# Altium footprint library Inductor.PcbLib: 9 footprints
Each footprint in its own frame and in the unit in brackets; x right, y up, seen from the top. Pads: shape width x height; smd on the part's side, far side on the other; paste and mask are expansions set on the pad; w line width, h text height; cw(c..) or ccw(c..) is an arc to the next point about the centre after c.
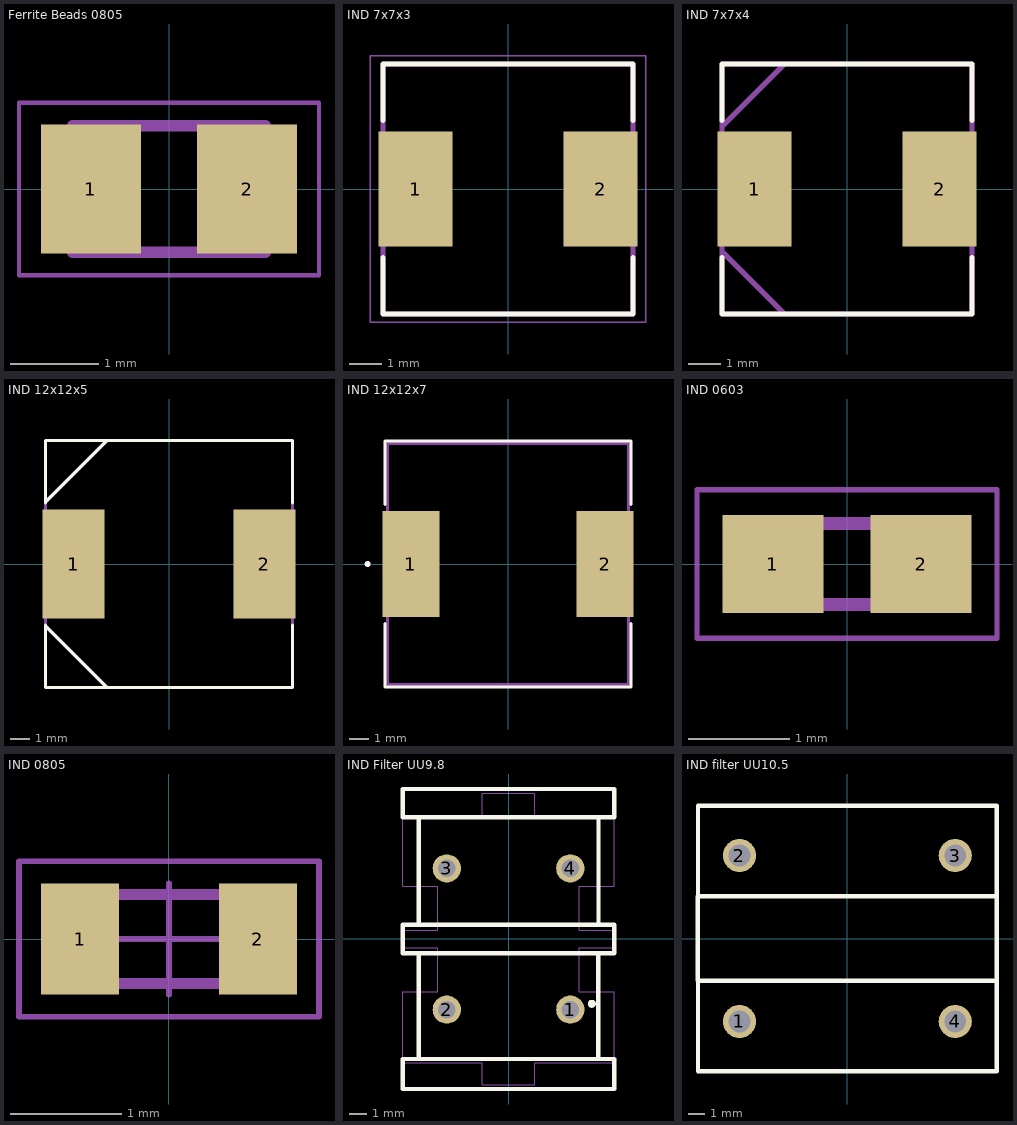
[diagram p0: the footprints below, top view; thin cyan lines are the x and y axes]

## Ferrite Beads 0805 [mm]
pads (2):
  rect 1.14x1.47 smd: 1(-0.89,0) 2(0.89,0)
Mechanical 13:
  lines w0.127: -1.1,-0.72 1.1,-0.72 1.1,0.72 -1.1,0.72 -1.1,-0.72
Mechanical 15:
  lines w0.05: -1.708,-0.983 1.708,-0.983 1.708,0.983 -1.708,0.983 -1.708,-0.983
3D body "BLM21AG102SH1D.STEP": height 1.05, standoff 0, extent -1,-0.625 1,0.625

## IND 7x7x3 [mil]
pads (2):
  rect 89x138 smd: 1(-111,0) 2(111,0)
Top Overlay:
  lines w6: -150,-82 -150,-150 150,-150 150,-82 ; -150,82 -150,150 150,150 150,82
Mechanical 13:
  lines w6: -150,-150 -150,150 150,150 150,-150 -150,-150
Mechanical 15:
  lines w1.97: -165.34,-159.84 -165.34,159.84 165.34,159.84 165.34,-159.84 -165.34,-159.84
3D body "step_temp.STEP": height 139.76, standoff 0, extent -149.61,-149.61 149.61,149.61

## IND 7x7x4 [mil]
pads (2):
  rect 89x138 smd: 1(-111,0) 2(111,0)
Top Overlay:
  lines w6: -150,-82 -150,-150 150,-150 150,-82 ; -150,82 -150,150 150,150 150,82
Mechanical 13:
  lines w6: -150,-75 -75,-150 ; -150,75 -75,150 ; -150,-150 -150,150 150,150 150,-150 -150,-150
3D body "DR74-100-R--3DModel-STEP-510211.STEP": height 171.26, standoff 0, extent -149.61,-149.61 149.61,149.61

## IND 12x12x5 [mil]
pads (2):
  rect 124x217 smd: 1(-190,0) 2(190,0)
Top Overlay:
  lines w6: -246,-121 -246,-123 ; -246,121 -246,246 246,246 246,121 ; -246,123 -123,246 ; -123,-246 -246,-123 ; 246,-121 246,-246 -246,-246 -246,-123
Mechanical 13:
  lines w6: -246,-123 -123,-246 ; -246,123 -123,246 ; -246,-246 246,-246 246,246 -246,246 -246,-246
3D body "DR125-180-R.STEP": height 236.22, standoff 0, extent -246.05,-246.06 246.07,246.07

## IND 12x12x7 [mil]
pads (2):
  rect 114x213 smd: 1(-195,0) 2(195,0)
Top Overlay:
  lines w6: -247,-120 -247,-247 247,-247 247,-120 ; -247,120 -247,247 247,247 247,120 ; -285,0 cw(c-282,0) -279,0 cw(c-282,0) -285,0
Mechanical 13:
  lines w0: -242,0 cw(c-239,0) -236,0 cw(c-239,0) -242,0
  lines w6: -242,-242 -242,0 -242,242 242,242 242,-242 -242,-242
3D body "step_temp.STEP": height 314.96, standoff 0, extent -236.22,-236.22 236.22,236.22

## IND 0603 [mm]
pads (2):
  rect 1x0.97 smd: 1(-0.735,0) 2(0.735,0)
Mechanical 13:
  lines w0.127: -0.8,-0.4 0.8,-0.4 0.8,0.4 -0.8,0.4 -0.8,-0.4
Mechanical 15:
  lines w0.05: -1.485,-0.735 -1.485,0.735 1.485,0.735 1.485,-0.735 -1.485,-0.735
3D body "step_temp.STEP": height 0.95, standoff 0, extent -0.8,-0.4 0.8,0.4

## IND 0805 [mm]
pads (2):
  rect 0.7x1 smd: 1(-0.8,0) 2(0.8,0)
Top 3D Body:
  lines w0.1: -0.8,-0.4 0.8,-0.4 0.8,0.4 -0.8,0.4 -0.8,-0.4
Top Designator:
  lines w0.05: -0.5,0 0.5,0 ; 0,-0.5 0,0.5 ; -1.35,-0.7 -1.35,0.7 1.35,0.7 1.35,-0.7 -1.35,-0.7
Top Component Outline:
  lines w0.1: -0.8,-0.4 -0.8,0.4 0.8,0.4 0.8,-0.4 -0.8,-0.4
3D body "74479762xxx_0603.stp": height 0.5, standoff 0, extent -0.8,-0.4 0.8,0.4

## IND Filter UU9.8 [mm]
pads (4):
  round 1.6 hole 1: 1(3.5,-4) 2(-3.5,-4) 3(-3.5,4) 4(3.5,4)
Top Overlay:
  circle w0.254: c4.72,-3.67 r0.1
  lines w0.254: -5.1,-6.8 -5.1,-0.8 ; -5.1,0.9 -5.1,6.9 ; 5.098,-6.798 5.098,-0.798 ; 5.098,0.901 5.098,6.901 ; 6,8.4 6,6.9 -6,6.9 -6,8.5 6,8.5 ; -6,-8.5 -6,-7.2 -6,-6.8 6,-6.8 6,-8.5 -6,-8.5 ; -6,-0.8 -6,0.8 6,0.8 6,-0.8 -6,-0.8
Mechanical 15:
  region: 3.8,-4.001 3.799,-3.942 3.752,-3.833 3.668,-3.751 3.559,-3.706 3.441,-3.706 3.332,-3.751 3.248,-3.833 3.201,-3.942 3.2,-4.001 3.201,-4.059 3.248,-4.168 3.332,-4.25 3.441,-4.295 3.559,-4.295 3.668,-4.25 3.752,-4.168 3.799,-4.059 3.8,-4
  region: 3.8,4 3.799,4.059 3.752,4.168 3.668,4.25 3.559,4.295 3.441,4.295 3.332,4.25 3.248,4.168 3.201,4.059 3.2,4 3.201,3.942 3.248,3.833 3.332,3.751 3.441,3.706 3.559,3.706 3.668,3.751 3.752,3.833 3.799,3.942 3.8,4
  region: -3.2,4 -3.201,4.059 -3.248,4.168 -3.332,4.25 -3.441,4.295 -3.559,4.295 -3.668,4.25 -3.752,4.168 -3.799,4.059 -3.8,4 -3.799,3.942 -3.752,3.833 -3.668,3.751 -3.559,3.706 -3.441,3.706 -3.332,3.751 -3.248,3.833 -3.201,3.942 -3.2,4
  region: -3.2,-4.001 -3.201,-3.942 -3.248,-3.833 -3.332,-3.751 -3.441,-3.706 -3.559,-3.706 -3.668,-3.751 -3.752,-3.833 -3.799,-3.942 -3.8,-4.001 -3.799,-4.059 -3.752,-4.168 -3.668,-4.25 -3.559,-4.295 -3.441,-4.295 -3.332,-4.25 -3.248,-4.168 -3.201,-4.059 -3.2,-4
  region: -5.94,-8.26 -5.94,-8.235 -5.975,-8.2 -6.025,-8.2 -6.06,-8.235 -6.06,-8.26 -6.06,-8.285 -6.025,-8.32 -5.975,-8.32 -5.94,-8.285 -5.94,-8.26
  lines w0.051: -6,-7 -6,-3 -4,-3 -4,-0.5 -6,-0.5 -6,0.5 -4,0.5 -4,3 -6,3 -6,7 -1.5,7 -1.5,8.25 1.5,8.25 1.5,7 6,7 6,3 4,3 4,2.85 4,2.84 4,0.5 6,0.5 6,-0.5 4,-0.5 4,-0.66 4,-3 6,-3 6,-7 1.5,-7 1.5,-8.25 -1.49,-8.25 -1.5,-8.26 -1.5,-8.25 -1.5,-7 -6,-7
3D body "User Library-UF9_8.STEP": height 15.3, standoff -3, extent -5.3,-8.076 5.3,8.081

## IND filter UU10.5 [mm]
pads (4):
  round 2 hole 1.3: 1(-6.5,-5) 2(-6.5,5) 3(6.5,5) 4(6.5,-5)
Top Overlay:
  lines w0.254: -9.017,-2.54 9.017,-2.54 9.017,2.54 -9.017,2.54 -9.017,-2.54 ; -9,-8 9,-8 9,8 -9,8 -9,-8
Mechanical 15:
  region: -8.94,-8 -8.94,-7.975 -8.975,-7.94 -9.025,-7.94 -9.06,-7.975 -9.06,-8 -9.06,-8.025 -9.025,-8.06 -8.975,-8.06 -8.94,-8.025 -8.94,-8
  region: 6.85,-5 6.85,-4.93 6.797,-4.802 6.698,-4.703 6.57,-4.65 6.43,-4.65 6.302,-4.703 6.203,-4.802 6.15,-4.93 6.15,-5 6.15,-5.07 6.203,-5.198 6.302,-5.297 6.43,-5.35 6.57,-5.35 6.698,-5.297 6.797,-5.198 6.85,-5.07 6.85,-5
  region: 6.85,5 6.85,5.07 6.797,5.198 6.698,5.297 6.57,5.35 6.43,5.35 6.302,5.297 6.203,5.198 6.15,5.07 6.15,5 6.15,4.93 6.203,4.802 6.302,4.703 6.43,4.65 6.57,4.65 6.698,4.703 6.797,4.802 6.85,4.93 6.85,5
  region: -6.15,5 -6.15,5.07 -6.203,5.198 -6.302,5.297 -6.431,5.35 -6.57,5.35 -6.698,5.297 -6.797,5.198 -6.85,5.07 -6.85,5 -6.85,4.93 -6.797,4.802 -6.698,4.703 -6.57,4.65 -6.43,4.65 -6.302,4.703 -6.203,4.802 -6.15,4.93 -6.15,5
  region: -6.15,-5 -6.15,-4.93 -6.203,-4.802 -6.302,-4.703 -6.431,-4.65 -6.57,-4.65 -6.698,-4.703 -6.797,-4.802 -6.85,-4.93 -6.85,-5 -6.85,-5.07 -6.797,-5.198 -6.698,-5.297 -6.57,-5.35 -6.43,-5.35 -6.302,-5.297 -6.203,-5.198 -6.15,-5.07 -6.15,-5
  lines w0.051: -9,-8 -9,8 9,8 9,-8 -9,-8
3D body "User Library-UU10_5-1.STEP": height 18, standoff 0, extent -9,-8.001 9,7.999